# Altium integrated library Linear Technology Power Management LED Driver ICs.IntLib: 490 symbols (part 48 of 48)
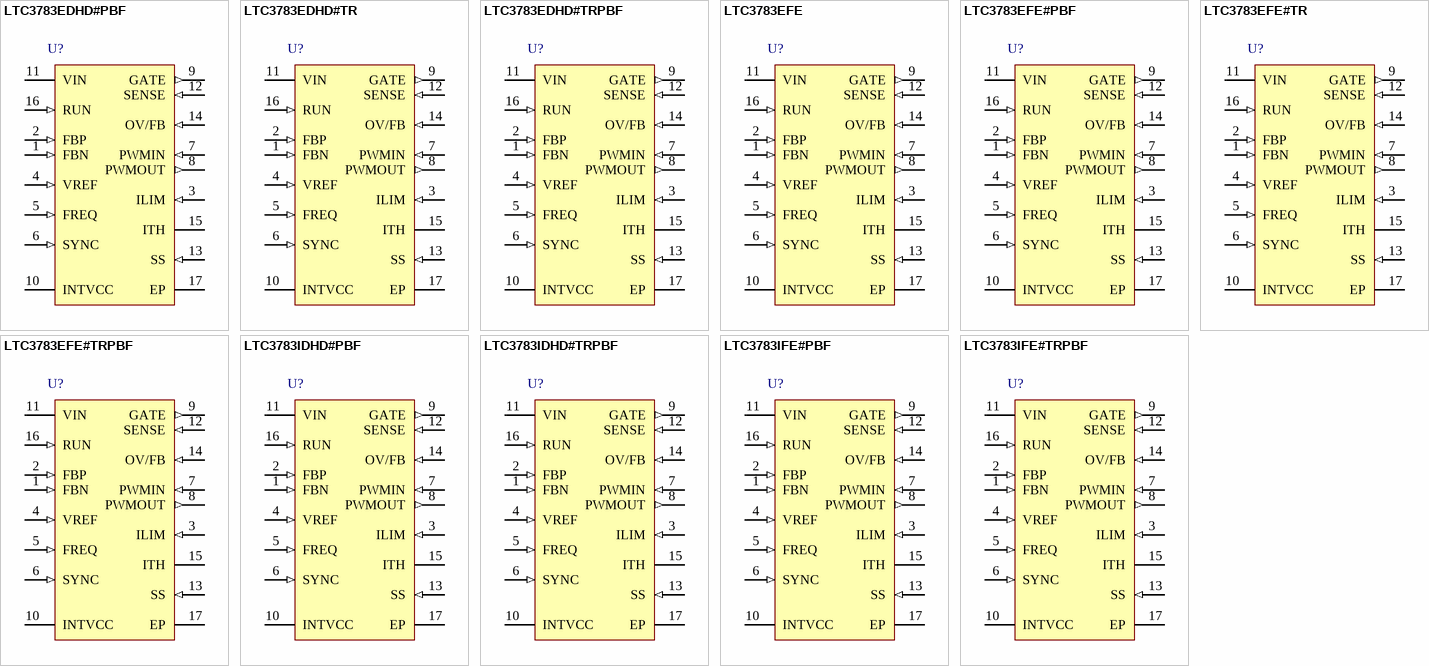
[diagram p67: symbols LTC3783EDHD#PBF to LTC3783IFE#TRPBF]

## LTC3783EFE
designator U?
PWM LED Driver and Boost, Flyback and SEPIC Converter, 3 to 36 V Vin, 100 V Vout MAX, 16-pin SOP (FE-16-EPV-BC), -40 to 85 degC; Manufacturer: Linear Technology; PartNumber: LTC3783EFE; Topology: Boost, Sepic, Flyback; Vin Min(V): 3; PackageVersion: Rev. J, 11/2012; PackageReference: FE-16; PackageDescription: 16-Pin Plastic TSSOP, Body 5 x 4.4 mm, Pitch 0.65 mm; RoHS: FALSE; Mounting Technology: Surface Mount; ComponentLink1Description: Manufacturer URL; ComponentLink1URL: http://www.linear.com/; ComponentLink2Description: Datasheet; ComponentLink2URL: http://cds.linear.com/docs/en/datasheet/3783fb.pdf; ComponentLink3Description: Package Specification; ComponentLink3URL: http://cds.linear.com/docs/en/packaging/05081663__J_FE16(BC).pdf
footprint LT-FE-16-EPV-BC_N (SOP, 16-Leads, Body 5.1x4.5mm, Pitch 0.65mm, Thermal Pad 3.58x2.94mm, IPC Medium Density)
footprint LT-FE-16-EPV-BC_L (SOP, 16-Leads, Body 5.1x4.5mm, Pitch 0.65mm, Thermal Pad 3.58x2.94mm, IPC High Density)
footprint LT-FE-16-EPV-BC_M (SOP, 16-Leads, Body 5.1x4.5mm, Pitch 0.65mm, Thermal Pad 3.58x2.94mm, IPC Low Density)
pins: 1 FBN (in) "Error Amplifier Inverting Input/Negative Current Sense Pin. In voltage mode (VFBP =< VVREF), this pin senses feedback voltage from either the external resistor divider across VOUT for output voltage regulation, or the (See Datasheet)", 2 FBP (in) "Error Amplifier Noninverting Input/Positive Current Sense Pin. This pin voltage determines the controlloop’s feedback mode (voltage or constant current/constant voltage), the threshold of which is approximately 2V. I(See Datasheet)", 3 ILIM (in) "Current Limit Pin. Sets current sense resistor offset voltage (VFBP - VFBN) in constant current mode regulation (i.e., when VFBP > 2.5V). Offset voltage is 100Mv when VILIM = 1.23V and decreases proportionally with VILIM. (See Datasheet)", 4 VREF (in) "Reference Voltage Pin. Provides a buffered version of the internal bandgap voltage, which can be connected to FBP either directly or with attenuation. Nominal voltage for this pin is 1.23V. This pin should never be bypassed (See Datasheet)", 5 FREQ (in) "A resistor from the FREQ pin to ground programs the operating frequency of the chip. The nominal voltage at the FREQ pin is 0.615V", 6 SYNC (in) "This input allows for synchronizing the operating frequency to an external clock and has an internal 100k pull-down resistor.", 7 PWMIN (in) "PWM Gate Driver Input. Internal 100k pull-up resistor. While PWMIN is low, PWMOUT is low, GATE stops switching and the external ITH network is disconnected, saving the ITH state", 8 PWMOUT (out) "PWM Gate Driver Output. Used for constant current dimming (LED load) or for output disconnect (step-up power supply).", 9 GATE (out) "Main Gate Driver Output for the Boost Converter.", 10 INTVCC (power) "Internal 7V Regulator Output. The main and PWM gate drivers and control circuits are powered from this voltage. Decouple this pin locally to the IC ground with a minimum of 4.7uF low ESR ceramic capacitor.", 11 VIN (power) "Main Supply Pin. Must be closely decoupled to ground.", 12 SENSE (in) "Current Sense Input for the Control Loop. Connect this pin to the drain of the main power MOSFET for VDS sensing and highest efficiency for VSENSE =< 36V. Alternatively, the SENSE pin may be connected to a resistor in the (See Datasheet)", 13 SS (in) "Soft-Start Pin. Provides a 50uA pull-up current, enabled and reset by RUN, which charges an optional external capacitor. This voltage ramp translates into a corresponding current limit ramp through the main MOSFET.", 14 OV/FB (in) "Overvoltage Pin/Voltage Feedback Pin. In voltage mode (VFBP =< VREF), this input, connected to VOUT through a resistor network, sets the output voltage at which GATE switching is disabled in order to prevent an overvoltage (See Datasheet)", 15 ITH "Error Amplifier Output/Compensation Pin. The current comparator input threshold increases with this control voltage, which is the output of the gm type error amplifier. Nominal voltage range for this pin is 0V to 1.40V.", 16 RUN (in) "The RUN pin provides the user with an accurate means for sensing the input voltage and programming the start-up threshold for the converter. The falling RUN pin threshold is nominally 1.248V and the comparator has 100mV (See Datasheet)", 17 EP (power) "Ground Pin. Solder to PCB ground for electrical contact and rated thermal performance."

## LTC3783EFE#PBF
designator U?
PWM LED Driver and Boost, Flyback and SEPIC Converter, 3 to 36 V Vin, 100 V Vout MAX, 16-pin SOP (FE-16-EPV-BC), -40 to 85 degC, Pb-Free; Manufacturer: Linear Technology; PartNumber: LTC3783EFE#PBF; Topology: Boost, Sepic, Flyback; Vin Min(V): 3; PackageVersion: Rev. J, 11/2012; PackageReference: FE-16; PackageDescription: 16-Pin Plastic TSSOP, Body 5 x 4.4 mm, Pitch 0.65 mm; Supplier 1: Digi-Key; Supplier Part Number 1: LTC3783EFE#PBF-ND; Supplier 2: Farnell; Supplier Part Number 2: 1226286; Supplier 3: Newark; Supplier Part Number 3: 56M8415; RoHS: TRUE; Mounting Technology: Surface Mount; ComponentLink1Description: Manufacturer URL; ComponentLink1URL: http://www.linear.com/; ComponentLink2Description: Datasheet; ComponentLink2URL: http://cds.linear.com/docs/en/datasheet/3783fb.pdf; ComponentLink3Description: Package Specification; ComponentLink3URL: http://cds.linear.com/docs/en/packaging/05081663__J_FE16(BC).pdf
footprint LT-FE-16-EPV-BC_N (SOP, 16-Leads, Body 5.1x4.5mm, Pitch 0.65mm, Thermal Pad 3.58x2.94mm, IPC Medium Density)
footprint LT-FE-16-EPV-BC_L (SOP, 16-Leads, Body 5.1x4.5mm, Pitch 0.65mm, Thermal Pad 3.58x2.94mm, IPC High Density)
footprint LT-FE-16-EPV-BC_M (SOP, 16-Leads, Body 5.1x4.5mm, Pitch 0.65mm, Thermal Pad 3.58x2.94mm, IPC Low Density)
pins: 1 FBN (in) "Error Amplifier Inverting Input/Negative Current Sense Pin. In voltage mode (VFBP =< VVREF), this pin senses feedback voltage from either the external resistor divider across VOUT for output voltage regulation, or the (See Datasheet)", 2 FBP (in) "Error Amplifier Noninverting Input/Positive Current Sense Pin. This pin voltage determines the controlloop’s feedback mode (voltage or constant current/constant voltage), the threshold of which is approximately 2V. I(See Datasheet)", 3 ILIM (in) "Current Limit Pin. Sets current sense resistor offset voltage (VFBP - VFBN) in constant current mode regulation (i.e., when VFBP > 2.5V). Offset voltage is 100Mv when VILIM = 1.23V and decreases proportionally with VILIM. (See Datasheet)", 4 VREF (in) "Reference Voltage Pin. Provides a buffered version of the internal bandgap voltage, which can be connected to FBP either directly or with attenuation. Nominal voltage for this pin is 1.23V. This pin should never be bypassed (See Datasheet)", 5 FREQ (in) "A resistor from the FREQ pin to ground programs the operating frequency of the chip. The nominal voltage at the FREQ pin is 0.615V", 6 SYNC (in) "This input allows for synchronizing the operating frequency to an external clock and has an internal 100k pull-down resistor.", 7 PWMIN (in) "PWM Gate Driver Input. Internal 100k pull-up resistor. While PWMIN is low, PWMOUT is low, GATE stops switching and the external ITH network is disconnected, saving the ITH state", 8 PWMOUT (out) "PWM Gate Driver Output. Used for constant current dimming (LED load) or for output disconnect (step-up power supply).", 9 GATE (out) "Main Gate Driver Output for the Boost Converter.", 10 INTVCC (power) "Internal 7V Regulator Output. The main and PWM gate drivers and control circuits are powered from this voltage. Decouple this pin locally to the IC ground with a minimum of 4.7uF low ESR ceramic capacitor.", 11 VIN (power) "Main Supply Pin. Must be closely decoupled to ground.", 12 SENSE (in) "Current Sense Input for the Control Loop. Connect this pin to the drain of the main power MOSFET for VDS sensing and highest efficiency for VSENSE =< 36V. Alternatively, the SENSE pin may be connected to a resistor in the (See Datasheet)", 13 SS (in) "Soft-Start Pin. Provides a 50uA pull-up current, enabled and reset by RUN, which charges an optional external capacitor. This voltage ramp translates into a corresponding current limit ramp through the main MOSFET.", 14 OV/FB (in) "Overvoltage Pin/Voltage Feedback Pin. In voltage mode (VFBP =< VREF), this input, connected to VOUT through a resistor network, sets the output voltage at which GATE switching is disabled in order to prevent an overvoltage (See Datasheet)", 15 ITH "Error Amplifier Output/Compensation Pin. The current comparator input threshold increases with this control voltage, which is the output of the gm type error amplifier. Nominal voltage range for this pin is 0V to 1.40V.", 16 RUN (in) "The RUN pin provides the user with an accurate means for sensing the input voltage and programming the start-up threshold for the converter. The falling RUN pin threshold is nominally 1.248V and the comparator has 100mV (See Datasheet)", 17 EP (power) "Ground Pin. Solder to PCB ground for electrical contact and rated thermal performance."

## LTC3783EFE#TR
designator U?
PWM LED Driver and Boost, Flyback and SEPIC Converter, 3 to 36 V Vin, 100 V Vout MAX, 16-pin SOP (FE-16-EPV-BC), -40 to 85 degC, Tape and Reel; Manufacturer: Linear Technology; PartNumber: LTC3783EFE#TR; Topology: Boost, Sepic, Flyback; Vin Min(V): 3; PackageVersion: Rev. J, 11/2012; PackageReference: FE-16; PackageDescription: 16-Pin Plastic TSSOP, Body 5 x 4.4 mm, Pitch 0.65 mm; Packing: Tape and Reel; RoHS: FALSE; Mounting Technology: Surface Mount; ComponentLink1Description: Manufacturer URL; ComponentLink1URL: http://www.linear.com/; ComponentLink2Description: Datasheet; ComponentLink2URL: http://cds.linear.com/docs/en/datasheet/3783fb.pdf; ComponentLink3Description: Package Specification; ComponentLink3URL: http://cds.linear.com/docs/en/packaging/05081663__J_FE16(BC).pdf
footprint LT-FE-16-EPV-BC_N (SOP, 16-Leads, Body 5.1x4.5mm, Pitch 0.65mm, Thermal Pad 3.58x2.94mm, IPC Medium Density)
footprint LT-FE-16-EPV-BC_L (SOP, 16-Leads, Body 5.1x4.5mm, Pitch 0.65mm, Thermal Pad 3.58x2.94mm, IPC High Density)
footprint LT-FE-16-EPV-BC_M (SOP, 16-Leads, Body 5.1x4.5mm, Pitch 0.65mm, Thermal Pad 3.58x2.94mm, IPC Low Density)
pins: 1 FBN (in) "Error Amplifier Inverting Input/Negative Current Sense Pin. In voltage mode (VFBP =< VVREF), this pin senses feedback voltage from either the external resistor divider across VOUT for output voltage regulation, or the (See Datasheet)", 2 FBP (in) "Error Amplifier Noninverting Input/Positive Current Sense Pin. This pin voltage determines the controlloop’s feedback mode (voltage or constant current/constant voltage), the threshold of which is approximately 2V. I(See Datasheet)", 3 ILIM (in) "Current Limit Pin. Sets current sense resistor offset voltage (VFBP - VFBN) in constant current mode regulation (i.e., when VFBP > 2.5V). Offset voltage is 100Mv when VILIM = 1.23V and decreases proportionally with VILIM. (See Datasheet)", 4 VREF (in) "Reference Voltage Pin. Provides a buffered version of the internal bandgap voltage, which can be connected to FBP either directly or with attenuation. Nominal voltage for this pin is 1.23V. This pin should never be bypassed (See Datasheet)", 5 FREQ (in) "A resistor from the FREQ pin to ground programs the operating frequency of the chip. The nominal voltage at the FREQ pin is 0.615V", 6 SYNC (in) "This input allows for synchronizing the operating frequency to an external clock and has an internal 100k pull-down resistor.", 7 PWMIN (in) "PWM Gate Driver Input. Internal 100k pull-up resistor. While PWMIN is low, PWMOUT is low, GATE stops switching and the external ITH network is disconnected, saving the ITH state", 8 PWMOUT (out) "PWM Gate Driver Output. Used for constant current dimming (LED load) or for output disconnect (step-up power supply).", 9 GATE (out) "Main Gate Driver Output for the Boost Converter.", 10 INTVCC (power) "Internal 7V Regulator Output. The main and PWM gate drivers and control circuits are powered from this voltage. Decouple this pin locally to the IC ground with a minimum of 4.7uF low ESR ceramic capacitor.", 11 VIN (power) "Main Supply Pin. Must be closely decoupled to ground.", 12 SENSE (in) "Current Sense Input for the Control Loop. Connect this pin to the drain of the main power MOSFET for VDS sensing and highest efficiency for VSENSE =< 36V. Alternatively, the SENSE pin may be connected to a resistor in the (See Datasheet)", 13 SS (in) "Soft-Start Pin. Provides a 50uA pull-up current, enabled and reset by RUN, which charges an optional external capacitor. This voltage ramp translates into a corresponding current limit ramp through the main MOSFET.", 14 OV/FB (in) "Overvoltage Pin/Voltage Feedback Pin. In voltage mode (VFBP =< VREF), this input, connected to VOUT through a resistor network, sets the output voltage at which GATE switching is disabled in order to prevent an overvoltage (See Datasheet)", 15 ITH "Error Amplifier Output/Compensation Pin. The current comparator input threshold increases with this control voltage, which is the output of the gm type error amplifier. Nominal voltage range for this pin is 0V to 1.40V.", 16 RUN (in) "The RUN pin provides the user with an accurate means for sensing the input voltage and programming the start-up threshold for the converter. The falling RUN pin threshold is nominally 1.248V and the comparator has 100mV (See Datasheet)", 17 EP (power) "Ground Pin. Solder to PCB ground for electrical contact and rated thermal performance."

## LTC3783EFE#TRPBF
designator U?
PWM LED Driver and Boost, Flyback and SEPIC Converter, 3 to 36 V Vin, 100 V Vout MAX, 16-pin SOP (FE-16-EPV-BC), -40 to 85 degC, Pb-Free, Tape and Reel; Manufacturer: Linear Technology; PartNumber: LTC3783EFE#TRPBF; Topology: Boost, Sepic, Flyback; Vin Min(V): 3; PackageVersion: Rev. J, 11/2012; PackageReference: FE-16; PackageDescription: 16-Pin Plastic TSSOP, Body 5 x 4.4 mm, Pitch 0.65 mm; Supplier 1: Digi-Key; Supplier Part Number 1: LTC3783EFE#TRPBF-ND; Packing: Tape and Reel; RoHS: TRUE; Mounting Technology: Surface Mount; ComponentLink1Description: Manufacturer URL; ComponentLink1URL: http://www.linear.com/; ComponentLink2Description: Datasheet; ComponentLink2URL: http://cds.linear.com/docs/en/datasheet/3783fb.pdf; ComponentLink3Description: Package Specification; ComponentLink3URL: http://cds.linear.com/docs/en/packaging/05081663__J_FE16(BC).pdf
footprint LT-FE-16-EPV-BC_N (SOP, 16-Leads, Body 5.1x4.5mm, Pitch 0.65mm, Thermal Pad 3.58x2.94mm, IPC Medium Density)
footprint LT-FE-16-EPV-BC_L (SOP, 16-Leads, Body 5.1x4.5mm, Pitch 0.65mm, Thermal Pad 3.58x2.94mm, IPC High Density)
footprint LT-FE-16-EPV-BC_M (SOP, 16-Leads, Body 5.1x4.5mm, Pitch 0.65mm, Thermal Pad 3.58x2.94mm, IPC Low Density)
pins: 1 FBN (in) "Error Amplifier Inverting Input/Negative Current Sense Pin. In voltage mode (VFBP =< VVREF), this pin senses feedback voltage from either the external resistor divider across VOUT for output voltage regulation, or the (See Datasheet)", 2 FBP (in) "Error Amplifier Noninverting Input/Positive Current Sense Pin. This pin voltage determines the controlloop’s feedback mode (voltage or constant current/constant voltage), the threshold of which is approximately 2V. I(See Datasheet)", 3 ILIM (in) "Current Limit Pin. Sets current sense resistor offset voltage (VFBP - VFBN) in constant current mode regulation (i.e., when VFBP > 2.5V). Offset voltage is 100Mv when VILIM = 1.23V and decreases proportionally with VILIM. (See Datasheet)", 4 VREF (in) "Reference Voltage Pin. Provides a buffered version of the internal bandgap voltage, which can be connected to FBP either directly or with attenuation. Nominal voltage for this pin is 1.23V. This pin should never be bypassed (See Datasheet)", 5 FREQ (in) "A resistor from the FREQ pin to ground programs the operating frequency of the chip. The nominal voltage at the FREQ pin is 0.615V", 6 SYNC (in) "This input allows for synchronizing the operating frequency to an external clock and has an internal 100k pull-down resistor.", 7 PWMIN (in) "PWM Gate Driver Input. Internal 100k pull-up resistor. While PWMIN is low, PWMOUT is low, GATE stops switching and the external ITH network is disconnected, saving the ITH state", 8 PWMOUT (out) "PWM Gate Driver Output. Used for constant current dimming (LED load) or for output disconnect (step-up power supply).", 9 GATE (out) "Main Gate Driver Output for the Boost Converter.", 10 INTVCC (power) "Internal 7V Regulator Output. The main and PWM gate drivers and control circuits are powered from this voltage. Decouple this pin locally to the IC ground with a minimum of 4.7uF low ESR ceramic capacitor.", 11 VIN (power) "Main Supply Pin. Must be closely decoupled to ground.", 12 SENSE (in) "Current Sense Input for the Control Loop. Connect this pin to the drain of the main power MOSFET for VDS sensing and highest efficiency for VSENSE =< 36V. Alternatively, the SENSE pin may be connected to a resistor in the (See Datasheet)", 13 SS (in) "Soft-Start Pin. Provides a 50uA pull-up current, enabled and reset by RUN, which charges an optional external capacitor. This voltage ramp translates into a corresponding current limit ramp through the main MOSFET.", 14 OV/FB (in) "Overvoltage Pin/Voltage Feedback Pin. In voltage mode (VFBP =< VREF), this input, connected to VOUT through a resistor network, sets the output voltage at which GATE switching is disabled in order to prevent an overvoltage (See Datasheet)", 15 ITH "Error Amplifier Output/Compensation Pin. The current comparator input threshold increases with this control voltage, which is the output of the gm type error amplifier. Nominal voltage range for this pin is 0V to 1.40V.", 16 RUN (in) "The RUN pin provides the user with an accurate means for sensing the input voltage and programming the start-up threshold for the converter. The falling RUN pin threshold is nominally 1.248V and the comparator has 100mV (See Datasheet)", 17 EP (power) "Ground Pin. Solder to PCB ground for electrical contact and rated thermal performance."

## LTC3783IDHD#PBF
designator U?
PWM LED Driver and Boost, Flyback and SEPIC Converter, 3 to 36 V Vin, 100 V Vout MAX, 16-pin SON (DHD-16), -40 to 125 degC, Pb-Free; Manufacturer: Linear Technology; PartNumber: LTC3783IDHD#PBF; Topology: Boost, Sepic, Flyback; Vin Min(V): 3; PackageVersion: Jun-10; PackageReference: DHD-16; PackageDescription: 16-Pin Plastic DFN, Body 5 x 4 mm, Pitch 0.5 mm; Supplier 1: Digi-Key; Supplier Part Number 1: LTC3783IDHD#PBF-ND; RoHS: TRUE; Mounting Technology: Surface Mount; Code_JEDEC: MO-229; ComponentLink1Description: Manufacturer URL; ComponentLink1URL: http://www.linear.com/; ComponentLink2Description: Datasheet; ComponentLink2URL: http://cds.linear.com/docs/en/datasheet/3783fb.pdf; ComponentLink3Description: Package Specification; ComponentLink3URL: http://cds.linear.com/docs/en/packaging/DFN_16_05-08-1707.pdf
footprint LT-DHD-16_V (SON, 16-Leads, Body 5x4mm, Pitch 0.5mm, Thermal Pad 4.34x2.44mm)
pins: 1 FBN (in) "Error Amplifier Inverting Input/Negative Current Sense Pin. In voltage mode (VFBP =< VVREF), this pin senses feedback voltage from either the external resistor divider across VOUT for output voltage regulation, or the (See Datasheet)", 2 FBP (in) "Error Amplifier Noninverting Input/Positive Current Sense Pin. This pin voltage determines the controlloop’s feedback mode (voltage or constant current/constant voltage), the threshold of which is approximately 2V. I(See Datasheet)", 3 ILIM (in) "Current Limit Pin. Sets current sense resistor offset voltage (VFBP - VFBN) in constant current mode regulation (i.e., when VFBP > 2.5V). Offset voltage is 100Mv when VILIM = 1.23V and decreases proportionally with VILIM. (See Datasheet)", 4 VREF (in) "Reference Voltage Pin. Provides a buffered version of the internal bandgap voltage, which can be connected to FBP either directly or with attenuation. Nominal voltage for this pin is 1.23V. This pin should never be bypassed (See Datasheet)", 5 FREQ (in) "A resistor from the FREQ pin to ground programs the operating frequency of the chip. The nominal voltage at the FREQ pin is 0.615V", 6 SYNC (in) "This input allows for synchronizing the operating frequency to an external clock and has an internal 100k pull-down resistor.", 7 PWMIN (in) "PWM Gate Driver Input. Internal 100k pull-up resistor. While PWMIN is low, PWMOUT is low, GATE stops switching and the external ITH network is disconnected, saving the ITH state", 8 PWMOUT (out) "PWM Gate Driver Output. Used for constant current dimming (LED load) or for output disconnect (step-up power supply).", 9 GATE (out) "Main Gate Driver Output for the Boost Converter.", 10 INTVCC (power) "Internal 7V Regulator Output. The main and PWM gate drivers and control circuits are powered from this voltage. Decouple this pin locally to the IC ground with a minimum of 4.7uF low ESR ceramic capacitor.", 11 VIN (power) "Main Supply Pin. Must be closely decoupled to ground.", 12 SENSE (in) "Current Sense Input for the Control Loop. Connect this pin to the drain of the main power MOSFET for VDS sensing and highest efficiency for VSENSE =< 36V. Alternatively, the SENSE pin may be connected to a resistor in the (See Datasheet)", 13 SS (in) "Soft-Start Pin. Provides a 50uA pull-up current, enabled and reset by RUN, which charges an optional external capacitor. This voltage ramp translates into a corresponding current limit ramp through the main MOSFET.", 14 OV/FB (in) "Overvoltage Pin/Voltage Feedback Pin. In voltage mode (VFBP =< VREF), this input, connected to VOUT through a resistor network, sets the output voltage at which GATE switching is disabled in order to prevent an overvoltage (See Datasheet)", 15 ITH "Error Amplifier Output/Compensation Pin. The current comparator input threshold increases with this control voltage, which is the output of the gm type error amplifier. Nominal voltage range for this pin is 0V to 1.40V.", 16 RUN (in) "The RUN pin provides the user with an accurate means for sensing the input voltage and programming the start-up threshold for the converter. The falling RUN pin threshold is nominally 1.248V and the comparator has 100mV (See Datasheet)", 17 EP (power) "Ground Pin. Solder to PCB ground for electrical contact and rated thermal performance."

## LTC3783IDHD#TRPBF
designator U?
PWM LED Driver and Boost, Flyback and SEPIC Converter, 3 to 36 V Vin, 100 V Vout MAX, 16-pin SON (DHD-16), -40 to 125 degC, Pb-Free, Tape and Reel; Manufacturer: Linear Technology; PartNumber: LTC3783IDHD#TRPBF; Topology: Boost, Sepic, Flyback; Vin Min(V): 3; PackageVersion: Jun-10; PackageReference: DHD-16; PackageDescription: 16-Pin Plastic DFN, Body 5 x 4 mm, Pitch 0.5 mm; Supplier 1: Digi-Key; Supplier Part Number 1: LTC3783IDHD#TRPBF-ND; Packing: Tape and Reel; RoHS: TRUE; Mounting Technology: Surface Mount; Code_JEDEC: MO-229; ComponentLink1Description: Manufacturer URL; ComponentLink1URL: http://www.linear.com/; ComponentLink2Description: Datasheet; ComponentLink2URL: http://cds.linear.com/docs/en/datasheet/3783fb.pdf; ComponentLink3Description: Package Specification; ComponentLink3URL: http://cds.linear.com/docs/en/packaging/DFN_16_05-08-1707.pdf
footprint LT-DHD-16_V (SON, 16-Leads, Body 5x4mm, Pitch 0.5mm, Thermal Pad 4.34x2.44mm)
pins: 1 FBN (in) "Error Amplifier Inverting Input/Negative Current Sense Pin. In voltage mode (VFBP =< VVREF), this pin senses feedback voltage from either the external resistor divider across VOUT for output voltage regulation, or the (See Datasheet)", 2 FBP (in) "Error Amplifier Noninverting Input/Positive Current Sense Pin. This pin voltage determines the controlloop’s feedback mode (voltage or constant current/constant voltage), the threshold of which is approximately 2V. I(See Datasheet)", 3 ILIM (in) "Current Limit Pin. Sets current sense resistor offset voltage (VFBP - VFBN) in constant current mode regulation (i.e., when VFBP > 2.5V). Offset voltage is 100Mv when VILIM = 1.23V and decreases proportionally with VILIM. (See Datasheet)", 4 VREF (in) "Reference Voltage Pin. Provides a buffered version of the internal bandgap voltage, which can be connected to FBP either directly or with attenuation. Nominal voltage for this pin is 1.23V. This pin should never be bypassed (See Datasheet)", 5 FREQ (in) "A resistor from the FREQ pin to ground programs the operating frequency of the chip. The nominal voltage at the FREQ pin is 0.615V", 6 SYNC (in) "This input allows for synchronizing the operating frequency to an external clock and has an internal 100k pull-down resistor.", 7 PWMIN (in) "PWM Gate Driver Input. Internal 100k pull-up resistor. While PWMIN is low, PWMOUT is low, GATE stops switching and the external ITH network is disconnected, saving the ITH state", 8 PWMOUT (out) "PWM Gate Driver Output. Used for constant current dimming (LED load) or for output disconnect (step-up power supply).", 9 GATE (out) "Main Gate Driver Output for the Boost Converter.", 10 INTVCC (power) "Internal 7V Regulator Output. The main and PWM gate drivers and control circuits are powered from this voltage. Decouple this pin locally to the IC ground with a minimum of 4.7uF low ESR ceramic capacitor.", 11 VIN (power) "Main Supply Pin. Must be closely decoupled to ground.", 12 SENSE (in) "Current Sense Input for the Control Loop. Connect this pin to the drain of the main power MOSFET for VDS sensing and highest efficiency for VSENSE =< 36V. Alternatively, the SENSE pin may be connected to a resistor in the (See Datasheet)", 13 SS (in) "Soft-Start Pin. Provides a 50uA pull-up current, enabled and reset by RUN, which charges an optional external capacitor. This voltage ramp translates into a corresponding current limit ramp through the main MOSFET.", 14 OV/FB (in) "Overvoltage Pin/Voltage Feedback Pin. In voltage mode (VFBP =< VREF), this input, connected to VOUT through a resistor network, sets the output voltage at which GATE switching is disabled in order to prevent an overvoltage (See Datasheet)", 15 ITH "Error Amplifier Output/Compensation Pin. The current comparator input threshold increases with this control voltage, which is the output of the gm type error amplifier. Nominal voltage range for this pin is 0V to 1.40V.", 16 RUN (in) "The RUN pin provides the user with an accurate means for sensing the input voltage and programming the start-up threshold for the converter. The falling RUN pin threshold is nominally 1.248V and the comparator has 100mV (See Datasheet)", 17 EP (power) "Ground Pin. Solder to PCB ground for electrical contact and rated thermal performance."

## LTC3783IFE#PBF
designator U?
PWM LED Driver and Boost, Flyback and SEPIC Converter, 3 to 36 V Vin, 100 V Vout MAX, 16-pin SOP (FE-16-EPV-BC), -40 to 125 degC, Pb-Free; Manufacturer: Linear Technology; PartNumber: LTC3783IFE#PBF; Topology: Boost, Sepic, Flyback; Vin Min(V): 3; PackageVersion: Rev. J, 11/2012; PackageReference: FE-16; PackageDescription: 16-Pin Plastic TSSOP, Body 5 x 4.4 mm, Pitch 0.65 mm; Supplier 1: Digi-Key; Supplier Part Number 1: LTC3783IFE#PBF-ND; Supplier 2: Newark; Supplier Part Number 2: 88M1916; RoHS: TRUE; Mounting Technology: Surface Mount; ComponentLink1Description: Manufacturer URL; ComponentLink1URL: http://www.linear.com/; ComponentLink2Description: Datasheet; ComponentLink2URL: http://cds.linear.com/docs/en/datasheet/3783fb.pdf; ComponentLink3Description: Package Specification; ComponentLink3URL: http://cds.linear.com/docs/en/packaging/05081663__J_FE16(BC).pdf
footprint LT-FE-16-EPV-BC_N (SOP, 16-Leads, Body 5.1x4.5mm, Pitch 0.65mm, Thermal Pad 3.58x2.94mm, IPC Medium Density)
footprint LT-FE-16-EPV-BC_L (SOP, 16-Leads, Body 5.1x4.5mm, Pitch 0.65mm, Thermal Pad 3.58x2.94mm, IPC High Density)
footprint LT-FE-16-EPV-BC_M (SOP, 16-Leads, Body 5.1x4.5mm, Pitch 0.65mm, Thermal Pad 3.58x2.94mm, IPC Low Density)
pins: 1 FBN (in) "Error Amplifier Inverting Input/Negative Current Sense Pin. In voltage mode (VFBP =< VVREF), this pin senses feedback voltage from either the external resistor divider across VOUT for output voltage regulation, or the (See Datasheet)", 2 FBP (in) "Error Amplifier Noninverting Input/Positive Current Sense Pin. This pin voltage determines the controlloop’s feedback mode (voltage or constant current/constant voltage), the threshold of which is approximately 2V. I(See Datasheet)", 3 ILIM (in) "Current Limit Pin. Sets current sense resistor offset voltage (VFBP - VFBN) in constant current mode regulation (i.e., when VFBP > 2.5V). Offset voltage is 100Mv when VILIM = 1.23V and decreases proportionally with VILIM. (See Datasheet)", 4 VREF (in) "Reference Voltage Pin. Provides a buffered version of the internal bandgap voltage, which can be connected to FBP either directly or with attenuation. Nominal voltage for this pin is 1.23V. This pin should never be bypassed (See Datasheet)", 5 FREQ (in) "A resistor from the FREQ pin to ground programs the operating frequency of the chip. The nominal voltage at the FREQ pin is 0.615V", 6 SYNC (in) "This input allows for synchronizing the operating frequency to an external clock and has an internal 100k pull-down resistor.", 7 PWMIN (in) "PWM Gate Driver Input. Internal 100k pull-up resistor. While PWMIN is low, PWMOUT is low, GATE stops switching and the external ITH network is disconnected, saving the ITH state", 8 PWMOUT (out) "PWM Gate Driver Output. Used for constant current dimming (LED load) or for output disconnect (step-up power supply).", 9 GATE (out) "Main Gate Driver Output for the Boost Converter.", 10 INTVCC (power) "Internal 7V Regulator Output. The main and PWM gate drivers and control circuits are powered from this voltage. Decouple this pin locally to the IC ground with a minimum of 4.7uF low ESR ceramic capacitor.", 11 VIN (power) "Main Supply Pin. Must be closely decoupled to ground.", 12 SENSE (in) "Current Sense Input for the Control Loop. Connect this pin to the drain of the main power MOSFET for VDS sensing and highest efficiency for VSENSE =< 36V. Alternatively, the SENSE pin may be connected to a resistor in the (See Datasheet)", 13 SS (in) "Soft-Start Pin. Provides a 50uA pull-up current, enabled and reset by RUN, which charges an optional external capacitor. This voltage ramp translates into a corresponding current limit ramp through the main MOSFET.", 14 OV/FB (in) "Overvoltage Pin/Voltage Feedback Pin. In voltage mode (VFBP =< VREF), this input, connected to VOUT through a resistor network, sets the output voltage at which GATE switching is disabled in order to prevent an overvoltage (See Datasheet)", 15 ITH "Error Amplifier Output/Compensation Pin. The current comparator input threshold increases with this control voltage, which is the output of the gm type error amplifier. Nominal voltage range for this pin is 0V to 1.40V.", 16 RUN (in) "The RUN pin provides the user with an accurate means for sensing the input voltage and programming the start-up threshold for the converter. The falling RUN pin threshold is nominally 1.248V and the comparator has 100mV (See Datasheet)", 17 EP (power) "Ground Pin. Solder to PCB ground for electrical contact and rated thermal performance."

## LTC3783IFE#TRPBF
designator U?
PWM LED Driver and Boost, Flyback and SEPIC Converter, 3 to 36 V Vin, 100 V Vout MAX, 16-pin SOP (FE-16-EPV-BC), -40 to 125 degC, Pb-Free, Tape and Reel; Manufacturer: Linear Technology; PartNumber: LTC3783IFE#TRPBF; Topology: Boost, Sepic, Flyback; Vin Min(V): 3; PackageVersion: Rev. J, 11/2012; PackageReference: FE-16; PackageDescription: 16-Pin Plastic TSSOP, Body 5 x 4.4 mm, Pitch 0.65 mm; Supplier 1: Digi-Key; Supplier Part Number 1: LTC3783IFE#TRPBF-ND; Packing: Tape and Reel; RoHS: TRUE; Mounting Technology: Surface Mount; ComponentLink1Description: Manufacturer URL; ComponentLink1URL: http://www.linear.com/; ComponentLink2Description: Datasheet; ComponentLink2URL: http://cds.linear.com/docs/en/datasheet/3783fb.pdf; ComponentLink3Description: Package Specification; ComponentLink3URL: http://cds.linear.com/docs/en/packaging/05081663__J_FE16(BC).pdf
footprint LT-FE-16-EPV-BC_N (SOP, 16-Leads, Body 5.1x4.5mm, Pitch 0.65mm, Thermal Pad 3.58x2.94mm, IPC Medium Density)
footprint LT-FE-16-EPV-BC_L (SOP, 16-Leads, Body 5.1x4.5mm, Pitch 0.65mm, Thermal Pad 3.58x2.94mm, IPC High Density)
footprint LT-FE-16-EPV-BC_M (SOP, 16-Leads, Body 5.1x4.5mm, Pitch 0.65mm, Thermal Pad 3.58x2.94mm, IPC Low Density)
pins: 1 FBN (in) "Error Amplifier Inverting Input/Negative Current Sense Pin. In voltage mode (VFBP =< VVREF), this pin senses feedback voltage from either the external resistor divider across VOUT for output voltage regulation, or the (See Datasheet)", 2 FBP (in) "Error Amplifier Noninverting Input/Positive Current Sense Pin. This pin voltage determines the controlloop’s feedback mode (voltage or constant current/constant voltage), the threshold of which is approximately 2V. I(See Datasheet)", 3 ILIM (in) "Current Limit Pin. Sets current sense resistor offset voltage (VFBP - VFBN) in constant current mode regulation (i.e., when VFBP > 2.5V). Offset voltage is 100Mv when VILIM = 1.23V and decreases proportionally with VILIM. (See Datasheet)", 4 VREF (in) "Reference Voltage Pin. Provides a buffered version of the internal bandgap voltage, which can be connected to FBP either directly or with attenuation. Nominal voltage for this pin is 1.23V. This pin should never be bypassed (See Datasheet)", 5 FREQ (in) "A resistor from the FREQ pin to ground programs the operating frequency of the chip. The nominal voltage at the FREQ pin is 0.615V", 6 SYNC (in) "This input allows for synchronizing the operating frequency to an external clock and has an internal 100k pull-down resistor.", 7 PWMIN (in) "PWM Gate Driver Input. Internal 100k pull-up resistor. While PWMIN is low, PWMOUT is low, GATE stops switching and the external ITH network is disconnected, saving the ITH state", 8 PWMOUT (out) "PWM Gate Driver Output. Used for constant current dimming (LED load) or for output disconnect (step-up power supply).", 9 GATE (out) "Main Gate Driver Output for the Boost Converter.", 10 INTVCC (power) "Internal 7V Regulator Output. The main and PWM gate drivers and control circuits are powered from this voltage. Decouple this pin locally to the IC ground with a minimum of 4.7uF low ESR ceramic capacitor.", 11 VIN (power) "Main Supply Pin. Must be closely decoupled to ground.", 12 SENSE (in) "Current Sense Input for the Control Loop. Connect this pin to the drain of the main power MOSFET for VDS sensing and highest efficiency for VSENSE =< 36V. Alternatively, the SENSE pin may be connected to a resistor in the (See Datasheet)", 13 SS (in) "Soft-Start Pin. Provides a 50uA pull-up current, enabled and reset by RUN, which charges an optional external capacitor. This voltage ramp translates into a corresponding current limit ramp through the main MOSFET.", 14 OV/FB (in) "Overvoltage Pin/Voltage Feedback Pin. In voltage mode (VFBP =< VREF), this input, connected to VOUT through a resistor network, sets the output voltage at which GATE switching is disabled in order to prevent an overvoltage (See Datasheet)", 15 ITH "Error Amplifier Output/Compensation Pin. The current comparator input threshold increases with this control voltage, which is the output of the gm type error amplifier. Nominal voltage range for this pin is 0V to 1.40V.", 16 RUN (in) "The RUN pin provides the user with an accurate means for sensing the input voltage and programming the start-up threshold for the converter. The falling RUN pin threshold is nominally 1.248V and the comparator has 100mV (See Datasheet)", 17 EP (power) "Ground Pin. Solder to PCB ground for electrical contact and rated thermal performance."